# Altium schematic symbol library RES.SchLib: 1 symbol
Pins are listed as number, name and electrical type; pins without a type are passive.

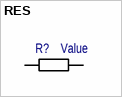
[diagram p0: symbol RES]

## RES
designator R?  (value not drawn)
RESISTOR symbol; Tolerance: Tolerance; Power: Power; Value: Value
pins: 1, 2